# Altium footprint library WE-MTCI.PcbLib: 1 footprints
Each footprint in its own frame and in the unit in brackets; x right, y up, seen from the top. Pads: shape width x height; smd on the part's side, far side on the other; paste and mask are expansions set on the pad; w line width, h text height; cw(c..) or ccw(c..) is an arc to the next point about the centre after c.
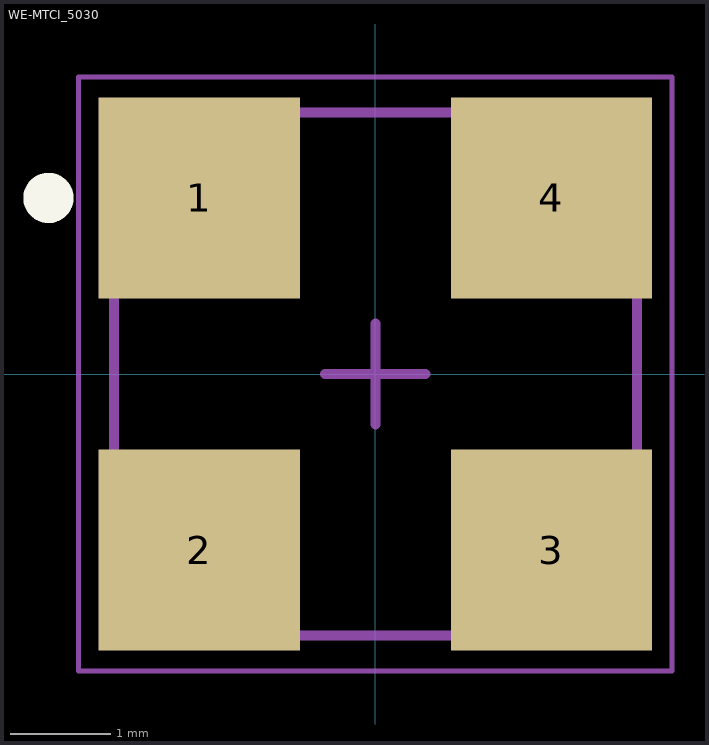
[diagram p0: the footprint, top view; thin cyan lines are the x and y axes]

## WE-MTCI_5030 [mm] "SMD  Multi-Turn Ratio Dual Inductor, 4-leads, body 5.2x5.2mm"
height 3.1
pads (4):
  rect 2x2 smd: 1(-1.75,1.75) 2(-1.75,-1.75) 3(1.75,-1.75) 4(1.75,1.75)
Top Overlay:
  circle w0.25: c-3.25,1.75 r0.125
Top Assembly:
  circle w0.1: c-2,2 r0.3
  lines w0.1: -2.6,-2.6 2.6,-2.6 2.6,2.6 -2.6,2.6 -2.6,-2.6
Top Designator:
  text ".Designator" at -3.647,-0.357 h1
Top 3D Body:
  circle w0.1: c-2,2 r0.3
  lines w0.1: -2.6,-2.6 2.6,-2.6 2.6,2.6 -2.6,2.6 -2.6,-2.6
Top Courtyard:
  lines w0.05: -2.95,-2.95 2.95,-2.95 2.95,2.95 -2.95,2.95 -2.95,-2.95
Top Component Center:
  lines w0.1: -0.5,0 0.5,0 ; 0,-0.5 0,0.5
3D body "IndMTCI_5030.stp": height 2.85, standoff 0, extent -2.5,-2.5 2.5,2.5